# Altium schematic symbol library J1B1211CCD.SchLib: 1 symbol
Pins are listed as number, name and electrical type; pins without a type are passive.

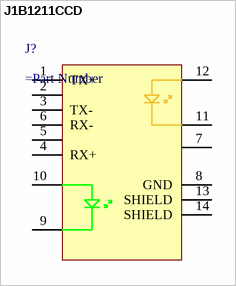
[diagram p0: symbol J1B1211CCD]

## J1B1211CCD
designator J?
=Description
pins: 1 TX+, 2, 3 TX-, 4 RX+, 5, 6 RX-, 7, 8 GND, 9, 10, 11, 12, 13 SHIELD, 14 SHIELD